# Altium schematic symbol library SCH - ARM CORTEX - STM STM32F072CBYx.SchLib: 1 symbol
Pins are listed as number, name and electrical type; pins without a type are passive.

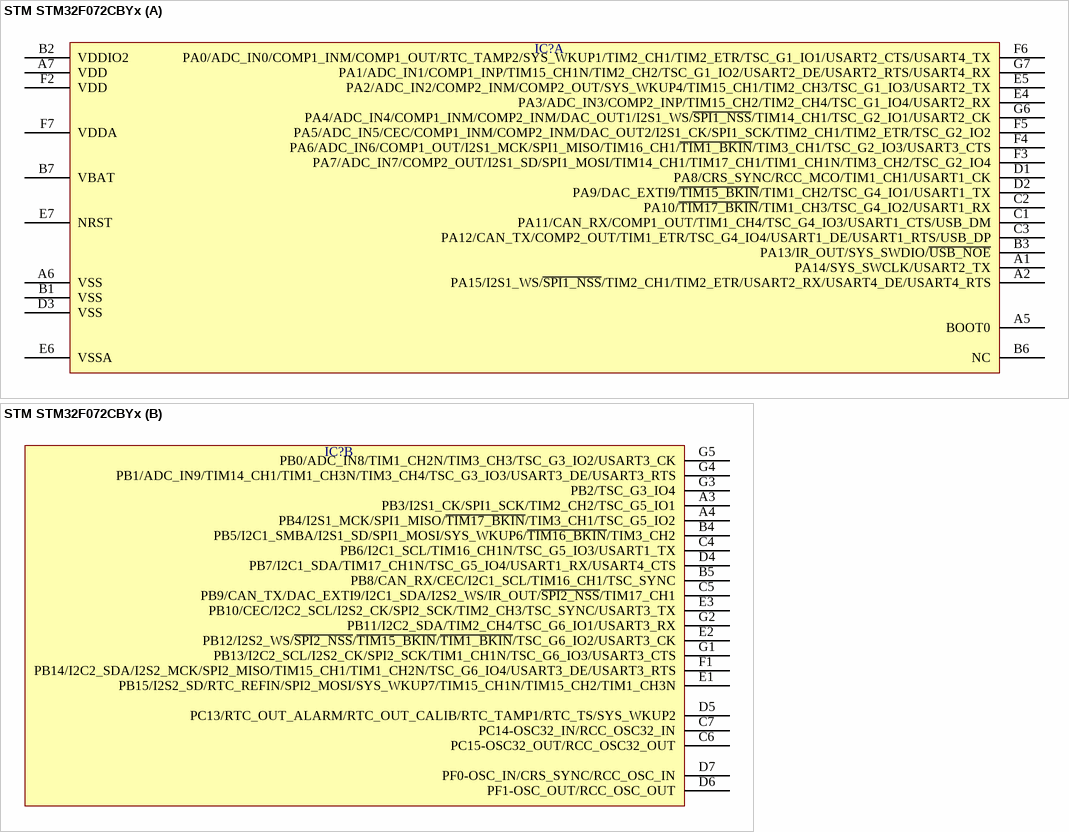
[diagram p0: symbol STM STM32F072CBYx]

## STM STM32F072CBYx
designator IC?  (value not drawn)
part A pins: A1 PA14/SYS_SWCLK/USART2_TX, A2 PA15/I2S1_WS/~{SPI1_NSS}/TIM2_CH1/TIM2_ETR/USART2_RX/USART4_DE/USART4_RTS, A5 BOOT0, A6 VSS, A7 VDD, B1 VSS, B2 VDDIO2, B3 PA13/IR_OUT/SYS_SWDIO/~{USB_NOE}, B6 NC, B7 VBAT, C1 PA11/CAN_RX/COMP1_OUT/TIM1_CH4/TSC_G4_IO3/USART1_CTS/USB_DM, C2 PA10/~{TIM17_BKIN}/TIM1_CH3/TSC_G4_IO2/USART1_RX, C3 PA12/CAN_TX/COMP2_OUT/TIM1_ETR/TSC_G4_IO4/USART1_DE/USART1_RTS/USB_DP, D1 PA8/CRS_SYNC/RCC_MCO/TIM1_CH1/USART1_CK, D2 PA9/DAC_EXTI9/~{TIM15_BKIN}/TIM1_CH2/TSC_G4_IO1/USART1_TX, D3 VSS, E4 PA3/ADC_IN3/COMP2_INP/TIM15_CH2/TIM2_CH4/TSC_G1_IO4/USART2_RX, E5 PA2/ADC_IN2/COMP2_INM/COMP2_OUT/SYS_WKUP4/TIM15_CH1/TIM2_CH3/TSC_G1_IO3/USART2_TX, E6 VSSA, E7 NRST, F2 VDD, F3 PA7/ADC_IN7/COMP2_OUT/I2S1_SD/SPI1_MOSI/TIM14_CH1/TIM17_CH1/TIM1_CH1N/TIM3_CH2/TSC_G2_IO4, F4 PA6/ADC_IN6/COMP1_OUT/I2S1_MCK/SPI1_MISO/TIM16_CH1/~{TIM1_BKIN}/TIM3_CH1/TSC_G2_IO3/USART3_CTS, F5 PA5/ADC_IN5/CEC/COMP1_INM/COMP2_INM/DAC_OUT2/I2S1_CK/SPI1_SCK/TIM2_CH1/TIM2_ETR/TSC_G2_IO2, F6 PA0/ADC_IN0/COMP1_INM/COMP1_OUT/RTC_TAMP2/SYS_WKUP1/TIM2_CH1/TIM2_ETR/TSC_G1_IO1/USART2_CTS/USART4_TX, F7 VDDA, G6 PA4/ADC_IN4/COMP1_INM/COMP2_INM/DAC_OUT1/I2S1_WS/~{SPI1_NSS}/TIM14_CH1/TSC_G2_IO1/USART2_CK, G7 PA1/ADC_IN1/COMP1_INP/TIM15_CH1N/TIM2_CH2/TSC_G1_IO2/USART2_DE/USART2_RTS/USART4_RX
part B pins: A3 PB3/I2S1_CK/SPI1_SCK/TIM2_CH2/TSC_G5_IO1, A4 PB4/I2S1_MCK/SPI1_MISO/~{TIM17_BKIN}/TIM3_CH1/TSC_G5_IO2, B4 PB5/I2C1_SMBA/I2S1_SD/SPI1_MOSI/SYS_WKUP6/~{TIM16_BKIN}/TIM3_CH2, B5 PB8/CAN_RX/CEC/I2C1_SCL/TIM16_CH1/TSC_SYNC, C4 PB6/I2C1_SCL/TIM16_CH1N/TSC_G5_IO3/USART1_TX, C5 PB9/CAN_TX/DAC_EXTI9/I2C1_SDA/I2S2_WS/IR_OUT/~{SPI2_NSS}/TIM17_CH1, C6 PC15-OSC32_OUT/RCC_OSC32_OUT, C7 PC14-OSC32_IN/RCC_OSC32_IN, D4 PB7/I2C1_SDA/TIM17_CH1N/TSC_G5_IO4/USART1_RX/USART4_CTS, D5 PC13/RTC_OUT_ALARM/RTC_OUT_CALIB/RTC_TAMP1/RTC_TS/SYS_WKUP2, D6 PF1-OSC_OUT/RCC_OSC_OUT, D7 PF0-OSC_IN/CRS_SYNC/RCC_OSC_IN, E1 PB15/I2S2_SD/RTC_REFIN/SPI2_MOSI/SYS_WKUP7/TIM15_CH1N/TIM15_CH2/TIM1_CH3N, E2 PB12/I2S2_WS/~{SPI2_NSS}/~{TIM15_BKIN}/~{TIM1_BKIN}/TSC_G6_IO2/USART3_CK, E3 PB10/CEC/I2C2_SCL/I2S2_CK/SPI2_SCK/TIM2_CH3/TSC_SYNC/USART3_TX, F1 PB14/I2C2_SDA/I2S2_MCK/SPI2_MISO/TIM15_CH1/TIM1_CH2N/TSC_G6_IO4/USART3_DE/USART3_RTS, G1 PB13/I2C2_SCL/I2S2_CK/SPI2_SCK/TIM1_CH1N/TSC_G6_IO3/USART3_CTS, G2 PB11/I2C2_SDA/TIM2_CH4/TSC_G6_IO1/USART3_RX, G3 PB2/TSC_G3_IO4, G4 PB1/ADC_IN9/TIM14_CH1/TIM1_CH3N/TIM3_CH4/TSC_G3_IO3/USART3_DE/USART3_RTS, G5 PB0/ADC_IN8/TIM1_CH2N/TIM3_CH3/TSC_G3_IO2/USART3_CK